# Altium footprint library standard_res_cap_ind.PcbLib: 17 footprints (part 2 of 2)
Each footprint in its own frame and in the unit in brackets; x right, y up, seen from the top. Pads: shape width x height; smd on the part's side, far side on the other; paste and mask are expansions set on the pad; w line width, h text height; cw(c..) or ccw(c..) is an arc to the next point about the centre after c.
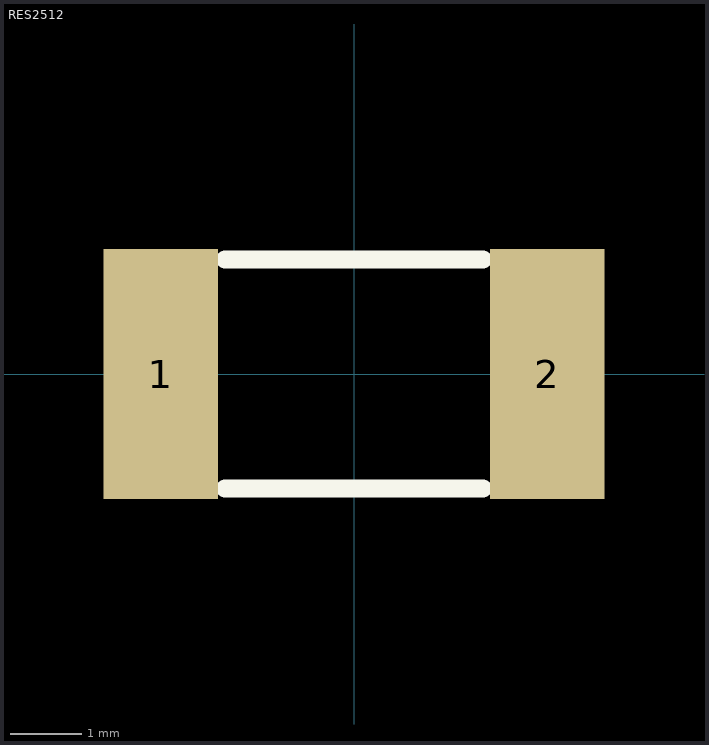
[diagram p1: the footprint, top view; thin cyan lines are the x and y axes]

## RES2512 [mm]
pads (2):
  rect 1.6x3.5 smd: 1(-2.7,0) 2(2.7,0)
Top Overlay:
  lines w0.254: -1.8,-1.6 1.8,-1.6 ; -1.8,1.6 1.8,1.6
3D body "Resistor 2512.step": height 0.6, standoff 0, extent -3.4,-1.55 3.4,1.55